# EAGLE library part EZC06DRXH_BOTTOM (library special)
CONN EDGE DUAL .100 DIP 12POS
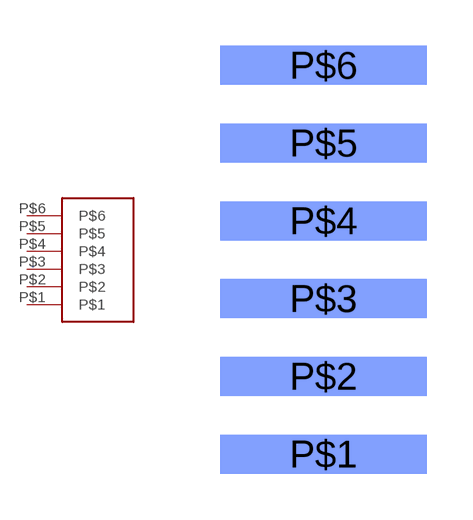
[diagram p15: symbol with the pads of EZC06DRXH_BOTTOM; footprint EZC06DRXH_BOTTOM]

Designator prefix -

## EZC06DRXH_BOTTOM  [EZC06DRXH_BOTTOM]
P$1  P$1
P$2  P$2
P$3  P$3
P$4  P$4
P$5  P$5
P$6  P$6

## Footprint EZC06DRXH_BOTTOM (pad centres in mm)
smd 6.731 x 1.27 bottom: P$1 0,-6.35; P$2 0,-3.81; P$3 0,-1.27; P$4 0,1.27; P$5 0,3.81; P$6 0,6.35